# EAGLE library part ETHERNET_2PORT (library dragino)
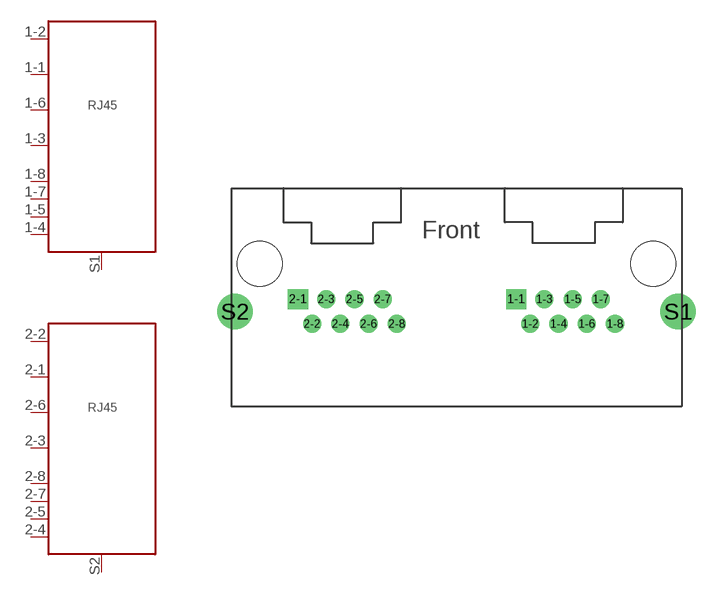
[diagram p24: symbol with the pads of ETHERNET-1X2; footprint ETHERNET-1X2]

Designator prefix -; gates G$1=RIONET_ETHERNET_CON G$2=RIONET_ETHERNET_CON

## ETHERNET_2PORT  [ETHERNET-1X2]
1-1  G$1:1  pas
1-2  G$1:2  pas
1-3  G$1:3  pas
1-4  G$1:4  pas
1-5  G$1:5  pas
1-6  G$1:6  pas
1-7  G$1:7  pas
1-8  G$1:8  pas
2-1  G$2:1  pas
2-2  G$2:2  pas
2-3  G$2:3  pas
2-4  G$2:4  pas
2-5  G$2:5  pas
2-6  G$2:6  pas
2-7  G$2:7  pas
2-8  G$2:8  pas
S1  G$1:SHIELD  pwr
S2  G$2:SHIELD  pwr

## Footprint ETHERNET-1X2 (pad centres in mm)
drill 0.94 pad 1.27 square: 1-1 4.305,-2.54; 2-1 -11.445,-2.54
drill 0.8: 1-2 5.325,-4.32; 1-3 6.345,-2.54; 1-4 7.365,-4.32; 1-5 8.385,-2.54; 1-6 9.405,-4.32; 1-7 10.425,-2.54; 1-8 11.445,-4.32; 2-2 -10.425,-4.32; 2-3 -9.405,-2.54; 2-4 -8.385,-4.32; 2-5 -7.365,-2.54; 2-6 -6.345,-4.32; 2-7 -5.325,-2.54; 2-8 -4.305,-4.32
drill 1.7: S1 16,-3.43; S2 -16,-3.43
hole 3.25 at -14.225,0
hole 3.25 at 14.225,0